# Altium schematic symbol library PCB_Project.SchLib: 1 symbol
Pins are listed as number, name and electrical type; pins without a type are passive.

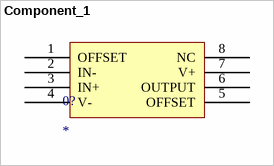
[diagram p0: symbol Component_1]

## Component_1
designator 0?
Op Amp
footprint Op Amp
pins: 1 OFFSET, 2 IN-, 3 IN+, 4 V-, 5 OFFSET, 6 OUTPUT, 7 V+, 8 NC